# Altium footprint library RESC_5025[2010]_L.PcbLib: 1 footprints
Each footprint in its own frame and in the unit in brackets; x right, y up, seen from the top. Pads: shape width x height; smd on the part's side, far side on the other; paste and mask are expansions set on the pad; w line width, h text height; cw(c..) or ccw(c..) is an arc to the next point about the centre after c.
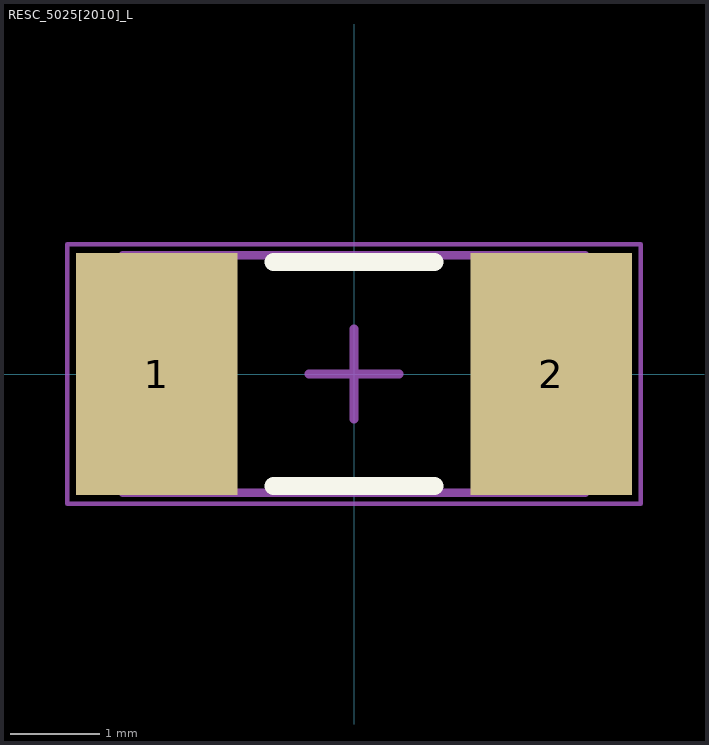
[diagram p0: the footprint, top view; thin cyan lines are the x and y axes]

## RESC_5025[2010]_L [mm] "Resistor EIA 2010"
height 0.71
pads (2):
  rect 1.8x2.7 smd: 1(-2.2,0) 2(2.2,0)
Top Overlay:
  lines w0.2: -0.9,-1.25 0.9,-1.25 ; -0.9,1.25 0.9,1.25
Mechanical 13:
  lines w0.1: -2.575,-1.325 2.575,-1.325 2.575,1.325 -2.575,1.325 -2.575,-1.325
Mechanical 15:
  lines w0.05: -3.2,-1.45 3.2,-1.45 3.2,1.45 -3.2,1.45 -3.2,-1.45
  lines w0.1: -0.5,0 0.5,0 ; 0,-0.5 0,0.5
3D body: height 0.71, standoff 0, extent 1.975,-1.325 2.575,1.325
3D body: height 0.71, standoff 0, extent -2.575,-1.325 -1.975,1.325
3D body: height 0.71, standoff 0, extent -1.975,-1.325 1.975,1.325